# EAGLE library part SP720 (library Littlefuse)
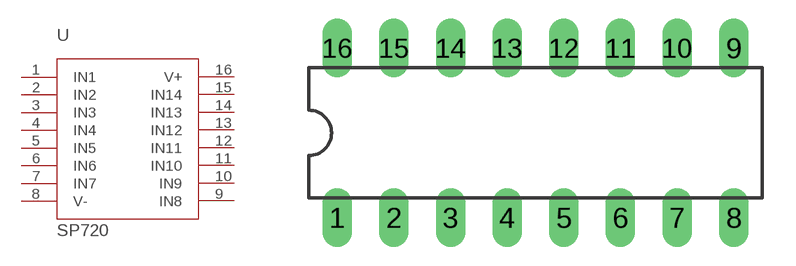
[diagram p0: symbol with the pads of DIL16; footprint DIL16]

Designator prefix -

## SP720  [DIL16]
1  IN1  in
2  IN2  in
3  IN3  in
4  IN4  in
5  IN5  in
6  IN6  in
7  IN7  in
8  V-  in
9  IN8  in
10  IN9  in
11  IN10  in
12  IN11  in
13  IN12  in
14  IN13  in
15  IN14  in
16  V+  in

## Footprint DIL16 (pad centres in mm)
Dual In Line Package
drill 0.813 long: 1 -8.89,-3.81; 2 -6.35,-3.81; 3 -3.81,-3.81; 4 -1.27,-3.81; 5 1.27,-3.81; 6 3.81,-3.81; 7 6.35,-3.81; 8 8.89,-3.81; 9 8.89,3.81; 10 6.35,3.81; 11 3.81,3.81; 12 1.27,3.81; 13 -1.27,3.81; 14 -3.81,3.81; 15 -6.35,3.81; 16 -8.89,3.81